# Altium integrated library Microchip dsPIC30F.IntLib: 283 symbols (part 1 of 14)
Pins are listed as number, name and electrical type; pins without a type are passive.

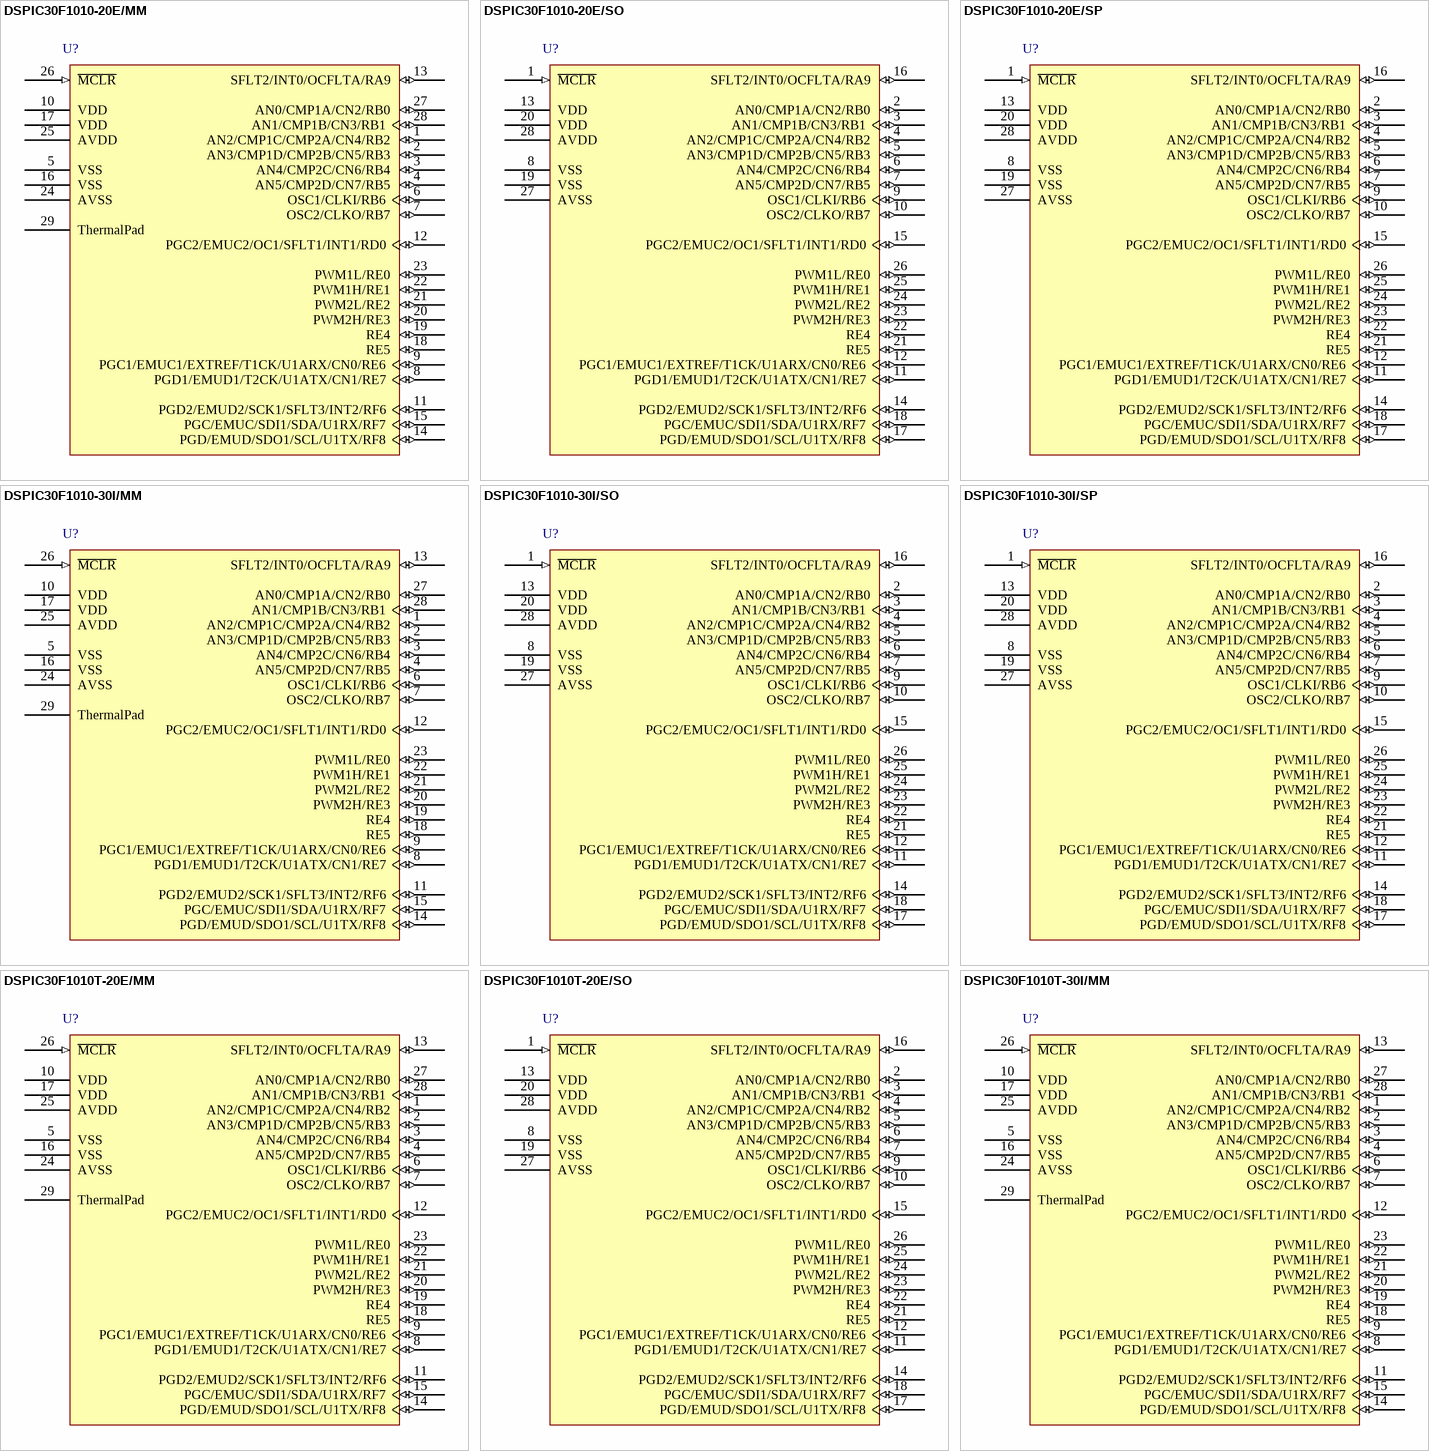
[diagram p0: symbols DSPIC30F1010-20E/MM to DSPIC30F1010T-30I/MM]

## DSPIC30F1010-20E/MM
designator U?
High-Performance 16-bit Digital Signal Controller with Switch Mode Power Supply, 6 KB Flash, 256 Byte SRAM, 28-Pin QFN, Extended High Temperature; Manufacturer: Microchip; PartNumber: DSPIC30F1010-20E/MM; DatasheetVersion: revC, Nov-2006; PackageVersion: revBB, Aug-2009; PackageReference: QFNS-MM28; PackageDescription: 28-Lead Plastic Quad Flat, No Lead Package (MM) - 6x6x0.9 mm Body [QFN-S] with 0.40 mm Contact Length; Supplier 1: Digi-Key; Supplier Part Number 1: DSPIC30F1010-20E/MM-ND; Supplier 2: Mouser; Supplier Part Number 2: 579-DSPIC30101020EMM; Mounting Technology: Surface Mount; ComponentLink1Description: Manufacturer URL; ComponentLink1URL: http://www.microchip.com/; ComponentLink2Description: Datasheet; ComponentLink2URL: http://ww1.microchip.com/downloads/en/DeviceDoc/70178C.pdf; ComponentLink3Description: Package Specification; ComponentLink3URL: http://www.microchip.com/stellent/groups/techpub_sg/documents/packagingspec/en012702.pdf
footprint QFNS-MM28_N (QFN, 28-Leads, Body 6x6mm, Pitch 0.65mm, Thermal Pad 4.7x4.7mm, IPC Medium Density)
footprint QFNS-MM28_L (QFN, 28-Leads, Body 6x6mm, Pitch 0.65mm, Thermal Pad 4.7x4.7mm, IPC High Density)
footprint QFNS-MM28_M (QFN, 28-Leads, Body 6x6mm, Pitch 0.65mm, Thermal Pad 4.7x4.7mm, IPC Low Density)
pins: 1 AN2/CMP1C/CMP2A/CN4/RB2 (io), 2 AN3/CMP1D/CMP2B/CN5/RB3 (io), 3 AN4/CMP2C/CN6/RB4 (io), 4 AN5/CMP2D/CN7/RB5 (io), 5 VSS (power), 6 OSC1/CLKI/RB6 (io), 7 OSC2/CLKO/RB7 (io), 8 PGD1/EMUD1/T2CK/U1ATX/CN1/RE7 (io), 9 PGC1/EMUC1/EXTREF/T1CK/U1ARX/CN0/RE6 (io), 10 VDD (power), 11 PGD2/EMUD2/SCK1/SFLT3/INT2/RF6 (io), 12 PGC2/EMUC2/OC1/SFLT1/INT1/RD0 (io), 13 SFLT2/INT0/OCFLTA/RA9 (io), 14 PGD/EMUD/SDO1/SCL/U1TX/RF8 (io), 15 PGC/EMUC/SDI1/SDA/U1RX/RF7 (io), 16 VSS (power), 17 VDD (power), 18 RE5 (io), 19 RE4 (io), 20 PWM2H/RE3 (io), 21 PWM2L/RE2 (io), 22 PWM1H/RE1 (io), 23 PWM1L/RE0 (io), 24 AVSS (power), 25 AVDD (power), 26 ~{MCLR} (in), 27 AN0/CMP1A/CN2/RB0 (io), 28 AN1/CMP1B/CN3/RB1 (io), 29 ThermalPad

## DSPIC30F1010-20E/SO
designator U?
High-Performance 16-bit Digital Signal Controller with Switch Mode Power Supply, 6 KB Flash, 256 Byte SRAM, 28-Pin SOIC, Extended High Temperature; Manufacturer: Microchip; PartNumber: DSPIC30F1010-20E/SO; DatasheetVersion: revC, Nov-2006; PackageVersion: revBB, Aug-2009; PackageReference: SOIC-SO28; PackageDescription: 28-Lead Plastic Small Outline (SO) - Wide 7.50mm Body [SOIC]; Supplier 1: Digi-Key; Supplier Part Number 1: DSPIC30F1010-20E/SO-ND; Supplier 2: Mouser; Supplier Part Number 2: 579-DSPIC30101020ESO; Mounting Technology: Surface Mount; Code_JEDEC: MS-013; ComponentLink1Description: Manufacturer URL; ComponentLink1URL: http://www.microchip.com/; ComponentLink2Description: Datasheet; ComponentLink2URL: http://ww1.microchip.com/downloads/en/DeviceDoc/70178C.pdf; ComponentLink3Description: Package Specification; ComponentLink3URL: http://www.microchip.com/stellent/groups/techpub_sg/documents/packagingspec/en012702.pdf
footprint SOIC-SO28_N (SOIC, 28-Leads, Body 17.9x7.5mm, Pitch 1.27mm, IPC Medium Density)
footprint SOIC-SO28_L (SOIC, 28-Leads, Body 17.9x7.5mm, Pitch 1.27mm, IPC High Density)
footprint SOIC-SO28_M (SOIC, 28-Leads, Body 17.9x7.5mm, Pitch 1.27mm, IPC Low Density)
pins: 1 ~{MCLR} (in), 2 AN0/CMP1A/CN2/RB0 (io), 3 AN1/CMP1B/CN3/RB1 (io), 4 AN2/CMP1C/CMP2A/CN4/RB2 (io), 5 AN3/CMP1D/CMP2B/CN5/RB3 (io), 6 AN4/CMP2C/CN6/RB4 (io), 7 AN5/CMP2D/CN7/RB5 (io), 8 VSS (power), 9 OSC1/CLKI/RB6 (io), 10 OSC2/CLKO/RB7 (io), 11 PGD1/EMUD1/T2CK/U1ATX/CN1/RE7 (io), 12 PGC1/EMUC1/EXTREF/T1CK/U1ARX/CN0/RE6 (io), 13 VDD (power), 14 PGD2/EMUD2/SCK1/SFLT3/INT2/RF6 (io), 15 PGC2/EMUC2/OC1/SFLT1/INT1/RD0 (io), 16 SFLT2/INT0/OCFLTA/RA9 (io), 17 PGD/EMUD/SDO1/SCL/U1TX/RF8 (io), 18 PGC/EMUC/SDI1/SDA/U1RX/RF7 (io), 19 VSS (power), 20 VDD (power), 21 RE5 (io), 22 RE4 (io), 23 PWM2H/RE3 (io), 24 PWM2L/RE2 (io), 25 PWM1H/RE1 (io), 26 PWM1L/RE0 (io), 27 AVSS (power), 28 AVDD (power)

## DSPIC30F1010-20E/SP
designator U?
High-Performance 16-bit Digital Signal Controller with Switch Mode Power Supply, 6 KB Flash, 256 Byte SRAM, 28-Pin SPDIP, Extended High Temperature; Manufacturer: Microchip; PartNumber: DSPIC30F1010-20E/SP; DatasheetVersion: revC, Nov-2006; PackageVersion: revBB, Aug-2009; PackageReference: SPDIP300-SP28; PackageDescription: 28-Lead Skinny Plastic Dual In-Line (SP) - 300 mil Body [SPDIP]; Supplier 1: Digi-Key; Supplier Part Number 1: DSPIC30F1010-20E/SP-ND; Supplier 2: Newark; Supplier Part Number 2: 88K3872; Supplier 3: Mouser; Supplier Part Number 3: 579-DSPIC30101020ESP; Mounting Technology: Through Hole; ComponentLink1Description: Manufacturer URL; ComponentLink1URL: http://www.microchip.com/; ComponentLink2Description: Datasheet; ComponentLink2URL: http://ww1.microchip.com/downloads/en/DeviceDoc/70178C.pdf; ComponentLink3Description: Package Specification; ComponentLink3URL: http://www.microchip.com/stellent/groups/techpub_sg/documents/packagingspec/en012702.pdf
footprint SPDIP300-SP28 (DIP, 28-Leads, Row Spacing 7.62mm, Pitch 2.54mm, Body 34.9x6.8mm)
pins: 1 ~{MCLR} (in), 2 AN0/CMP1A/CN2/RB0 (io), 3 AN1/CMP1B/CN3/RB1 (io), 4 AN2/CMP1C/CMP2A/CN4/RB2 (io), 5 AN3/CMP1D/CMP2B/CN5/RB3 (io), 6 AN4/CMP2C/CN6/RB4 (io), 7 AN5/CMP2D/CN7/RB5 (io), 8 VSS (power), 9 OSC1/CLKI/RB6 (io), 10 OSC2/CLKO/RB7 (io), 11 PGD1/EMUD1/T2CK/U1ATX/CN1/RE7 (io), 12 PGC1/EMUC1/EXTREF/T1CK/U1ARX/CN0/RE6 (io), 13 VDD (power), 14 PGD2/EMUD2/SCK1/SFLT3/INT2/RF6 (io), 15 PGC2/EMUC2/OC1/SFLT1/INT1/RD0 (io), 16 SFLT2/INT0/OCFLTA/RA9 (io), 17 PGD/EMUD/SDO1/SCL/U1TX/RF8 (io), 18 PGC/EMUC/SDI1/SDA/U1RX/RF7 (io), 19 VSS (power), 20 VDD (power), 21 RE5 (io), 22 RE4 (io), 23 PWM2H/RE3 (io), 24 PWM2L/RE2 (io), 25 PWM1H/RE1 (io), 26 PWM1L/RE0 (io), 27 AVSS (power), 28 AVDD (power)

## DSPIC30F1010-30I/MM
designator U?
High-Performance 16-bit Digital Signal Controller with Switch Mode Power Supply, 6 KB Flash, 256 Byte SRAM, 28-Pin QFN, Industrial Temperature; Manufacturer: Microchip; PartNumber: DSPIC30F1010-30I/MM; DatasheetVersion: revC, Nov-2006; PackageVersion: revBB, Aug-2009; PackageReference: QFNS-MM28; PackageDescription: 28-Lead Plastic Quad Flat, No Lead Package (MM) - 6x6x0.9 mm Body [QFN-S] with 0.40 mm Contact Length; Supplier 1: Digi-Key; Supplier Part Number 1: DSPIC30F1010-30I/MM-ND; Supplier 2: Mouser; Supplier Part Number 2: 579-DSPIC30101030IMM; Mounting Technology: Surface Mount; ComponentLink1Description: Manufacturer URL; ComponentLink1URL: http://www.microchip.com/; ComponentLink2Description: Datasheet; ComponentLink2URL: http://ww1.microchip.com/downloads/en/DeviceDoc/70178C.pdf; ComponentLink3Description: Package Specification; ComponentLink3URL: http://www.microchip.com/stellent/groups/techpub_sg/documents/packagingspec/en012702.pdf
footprint QFNS-MM28_N (QFN, 28-Leads, Body 6x6mm, Pitch 0.65mm, Thermal Pad 4.7x4.7mm, IPC Medium Density)
footprint QFNS-MM28_L (QFN, 28-Leads, Body 6x6mm, Pitch 0.65mm, Thermal Pad 4.7x4.7mm, IPC High Density)
footprint QFNS-MM28_M (QFN, 28-Leads, Body 6x6mm, Pitch 0.65mm, Thermal Pad 4.7x4.7mm, IPC Low Density)
pins: 1 AN2/CMP1C/CMP2A/CN4/RB2 (io), 2 AN3/CMP1D/CMP2B/CN5/RB3 (io), 3 AN4/CMP2C/CN6/RB4 (io), 4 AN5/CMP2D/CN7/RB5 (io), 5 VSS (power), 6 OSC1/CLKI/RB6 (io), 7 OSC2/CLKO/RB7 (io), 8 PGD1/EMUD1/T2CK/U1ATX/CN1/RE7 (io), 9 PGC1/EMUC1/EXTREF/T1CK/U1ARX/CN0/RE6 (io), 10 VDD (power), 11 PGD2/EMUD2/SCK1/SFLT3/INT2/RF6 (io), 12 PGC2/EMUC2/OC1/SFLT1/INT1/RD0 (io), 13 SFLT2/INT0/OCFLTA/RA9 (io), 14 PGD/EMUD/SDO1/SCL/U1TX/RF8 (io), 15 PGC/EMUC/SDI1/SDA/U1RX/RF7 (io), 16 VSS (power), 17 VDD (power), 18 RE5 (io), 19 RE4 (io), 20 PWM2H/RE3 (io), 21 PWM2L/RE2 (io), 22 PWM1H/RE1 (io), 23 PWM1L/RE0 (io), 24 AVSS (power), 25 AVDD (power), 26 ~{MCLR} (in), 27 AN0/CMP1A/CN2/RB0 (io), 28 AN1/CMP1B/CN3/RB1 (io), 29 ThermalPad

## DSPIC30F1010-30I/SO
designator U?
High-Performance 16-bit Digital Signal Controller with Switch Mode Power Supply, 6 KB Flash, 256 Byte SRAM, 28-Pin SOIC, Industrial Temperature; Manufacturer: Microchip; PartNumber: DSPIC30F1010-30I/SO; DatasheetVersion: revC, Nov-2006; PackageVersion: revBB, Aug-2009; PackageReference: SOIC-SO28; PackageDescription: 28-Lead Plastic Small Outline (SO) - Wide 7.50mm Body [SOIC]; Supplier 1: Digi-Key; Supplier Part Number 1: DSPIC30F1010-30I/SO-ND; Supplier 2: Farnell; Supplier Part Number 2: 1332021; Supplier 3: Mouser; Supplier Part Number 3: 579-DSPIC30101030ISO; Mounting Technology: Surface Mount; Code_JEDEC: MS-013; ComponentLink1Description: Manufacturer URL; ComponentLink1URL: http://www.microchip.com/; ComponentLink2Description: Datasheet; ComponentLink2URL: http://ww1.microchip.com/downloads/en/DeviceDoc/70178C.pdf; ComponentLink3Description: Package Specification; ComponentLink3URL: http://www.microchip.com/stellent/groups/techpub_sg/documents/packagingspec/en012702.pdf
footprint SOIC-SO28_N (SOIC, 28-Leads, Body 17.9x7.5mm, Pitch 1.27mm, IPC Medium Density)
footprint SOIC-SO28_L (SOIC, 28-Leads, Body 17.9x7.5mm, Pitch 1.27mm, IPC High Density)
footprint SOIC-SO28_M (SOIC, 28-Leads, Body 17.9x7.5mm, Pitch 1.27mm, IPC Low Density)
pins: 1 ~{MCLR} (in), 2 AN0/CMP1A/CN2/RB0 (io), 3 AN1/CMP1B/CN3/RB1 (io), 4 AN2/CMP1C/CMP2A/CN4/RB2 (io), 5 AN3/CMP1D/CMP2B/CN5/RB3 (io), 6 AN4/CMP2C/CN6/RB4 (io), 7 AN5/CMP2D/CN7/RB5 (io), 8 VSS (power), 9 OSC1/CLKI/RB6 (io), 10 OSC2/CLKO/RB7 (io), 11 PGD1/EMUD1/T2CK/U1ATX/CN1/RE7 (io), 12 PGC1/EMUC1/EXTREF/T1CK/U1ARX/CN0/RE6 (io), 13 VDD (power), 14 PGD2/EMUD2/SCK1/SFLT3/INT2/RF6 (io), 15 PGC2/EMUC2/OC1/SFLT1/INT1/RD0 (io), 16 SFLT2/INT0/OCFLTA/RA9 (io), 17 PGD/EMUD/SDO1/SCL/U1TX/RF8 (io), 18 PGC/EMUC/SDI1/SDA/U1RX/RF7 (io), 19 VSS (power), 20 VDD (power), 21 RE5 (io), 22 RE4 (io), 23 PWM2H/RE3 (io), 24 PWM2L/RE2 (io), 25 PWM1H/RE1 (io), 26 PWM1L/RE0 (io), 27 AVSS (power), 28 AVDD (power)

## DSPIC30F1010-30I/SP
designator U?
High-Performance 16-bit Digital Signal Controller with Switch Mode Power Supply, 6 KB Flash, 256 Byte SRAM, 28-Pin SPDIP, Industrial Temperature; Manufacturer: Microchip; PartNumber: DSPIC30F1010-30I/SP; DatasheetVersion: revC, Nov-2006; PackageVersion: revBB, Aug-2009; PackageReference: SPDIP300-SP28; PackageDescription: 28-Lead Skinny Plastic Dual In-Line (SP) - 300 mil Body [SPDIP]; Supplier 1: Digi-Key; Supplier Part Number 1: DSPIC30F1010-30I/SP-ND; Supplier 2: Farnell; Supplier Part Number 2: 1297280; Supplier 3: Newark; Supplier Part Number 3: 88K3875; Supplier 4: Mouser; Supplier Part Number 4: 579-DSPIC30F101030I; Mounting Technology: Through Hole; ComponentLink1Description: Manufacturer URL; ComponentLink1URL: http://www.microchip.com/; ComponentLink2Description: Datasheet; ComponentLink2URL: http://ww1.microchip.com/downloads/en/DeviceDoc/70178C.pdf; ComponentLink3Description: Package Specification; ComponentLink3URL: http://www.microchip.com/stellent/groups/techpub_sg/documents/packagingspec/en012702.pdf
footprint SPDIP300-SP28 (DIP, 28-Leads, Row Spacing 7.62mm, Pitch 2.54mm, Body 34.9x6.8mm)
pins: 1 ~{MCLR} (in), 2 AN0/CMP1A/CN2/RB0 (io), 3 AN1/CMP1B/CN3/RB1 (io), 4 AN2/CMP1C/CMP2A/CN4/RB2 (io), 5 AN3/CMP1D/CMP2B/CN5/RB3 (io), 6 AN4/CMP2C/CN6/RB4 (io), 7 AN5/CMP2D/CN7/RB5 (io), 8 VSS (power), 9 OSC1/CLKI/RB6 (io), 10 OSC2/CLKO/RB7 (io), 11 PGD1/EMUD1/T2CK/U1ATX/CN1/RE7 (io), 12 PGC1/EMUC1/EXTREF/T1CK/U1ARX/CN0/RE6 (io), 13 VDD (power), 14 PGD2/EMUD2/SCK1/SFLT3/INT2/RF6 (io), 15 PGC2/EMUC2/OC1/SFLT1/INT1/RD0 (io), 16 SFLT2/INT0/OCFLTA/RA9 (io), 17 PGD/EMUD/SDO1/SCL/U1TX/RF8 (io), 18 PGC/EMUC/SDI1/SDA/U1RX/RF7 (io), 19 VSS (power), 20 VDD (power), 21 RE5 (io), 22 RE4 (io), 23 PWM2H/RE3 (io), 24 PWM2L/RE2 (io), 25 PWM1H/RE1 (io), 26 PWM1L/RE0 (io), 27 AVSS (power), 28 AVDD (power)

## DSPIC30F1010T-20E/MM
designator U?
High-Performance 16-bit Digital Signal Controller with Switch Mode Power Supply, 6 KB Flash, 256 Byte SRAM, 28-Pin QFN, Extended High Temperature, Tape and Reel; Manufacturer: Microchip; PartNumber: DSPIC30F1010T-20E/MM; DatasheetVersion: revC, Nov-2006; PackageVersion: revBB, Aug-2009; PackageReference: QFNS-MM28; PackageDescription: 28-Lead Plastic Quad Flat, No Lead Package (MM) - 6x6x0.9 mm Body [QFN-S] with 0.40 mm Contact Length; Mounting Technology: Surface Mount; ComponentLink1Description: Manufacturer URL; ComponentLink1URL: http://www.microchip.com/; ComponentLink2Description: Datasheet; ComponentLink2URL: http://ww1.microchip.com/downloads/en/DeviceDoc/70178C.pdf; ComponentLink3Description: Package Specification; ComponentLink3URL: http://www.microchip.com/stellent/groups/techpub_sg/documents/packagingspec/en012702.pdf
footprint QFNS-MM28_N (QFN, 28-Leads, Body 6x6mm, Pitch 0.65mm, Thermal Pad 4.7x4.7mm, IPC Medium Density)
footprint QFNS-MM28_L (QFN, 28-Leads, Body 6x6mm, Pitch 0.65mm, Thermal Pad 4.7x4.7mm, IPC High Density)
footprint QFNS-MM28_M (QFN, 28-Leads, Body 6x6mm, Pitch 0.65mm, Thermal Pad 4.7x4.7mm, IPC Low Density)
pins: 1 AN2/CMP1C/CMP2A/CN4/RB2 (io), 2 AN3/CMP1D/CMP2B/CN5/RB3 (io), 3 AN4/CMP2C/CN6/RB4 (io), 4 AN5/CMP2D/CN7/RB5 (io), 5 VSS (power), 6 OSC1/CLKI/RB6 (io), 7 OSC2/CLKO/RB7 (io), 8 PGD1/EMUD1/T2CK/U1ATX/CN1/RE7 (io), 9 PGC1/EMUC1/EXTREF/T1CK/U1ARX/CN0/RE6 (io), 10 VDD (power), 11 PGD2/EMUD2/SCK1/SFLT3/INT2/RF6 (io), 12 PGC2/EMUC2/OC1/SFLT1/INT1/RD0 (io), 13 SFLT2/INT0/OCFLTA/RA9 (io), 14 PGD/EMUD/SDO1/SCL/U1TX/RF8 (io), 15 PGC/EMUC/SDI1/SDA/U1RX/RF7 (io), 16 VSS (power), 17 VDD (power), 18 RE5 (io), 19 RE4 (io), 20 PWM2H/RE3 (io), 21 PWM2L/RE2 (io), 22 PWM1H/RE1 (io), 23 PWM1L/RE0 (io), 24 AVSS (power), 25 AVDD (power), 26 ~{MCLR} (in), 27 AN0/CMP1A/CN2/RB0 (io), 28 AN1/CMP1B/CN3/RB1 (io), 29 ThermalPad

## DSPIC30F1010T-20E/SO
designator U?
High-Performance 16-bit Digital Signal Controller with Switch Mode Power Supply, 6 KB Flash, 256 Byte SRAM, 28-Pin SOIC, Extended High Temperature, Tape and Reel; Manufacturer: Microchip; PartNumber: DSPIC30F1010T-20E/SO; DatasheetVersion: revC, Nov-2006; PackageVersion: revBB, Aug-2009; PackageReference: SOIC-SO28; PackageDescription: 28-Lead Plastic Small Outline (SO) - Wide 7.50mm Body [SOIC]; Mounting Technology: Surface Mount; Code_JEDEC: MS-013; ComponentLink1Description: Manufacturer URL; ComponentLink1URL: http://www.microchip.com/; ComponentLink2Description: Datasheet; ComponentLink2URL: http://ww1.microchip.com/downloads/en/DeviceDoc/70178C.pdf; ComponentLink3Description: Package Specification; ComponentLink3URL: http://www.microchip.com/stellent/groups/techpub_sg/documents/packagingspec/en012702.pdf
footprint SOIC-SO28_N (SOIC, 28-Leads, Body 17.9x7.5mm, Pitch 1.27mm, IPC Medium Density)
footprint SOIC-SO28_L (SOIC, 28-Leads, Body 17.9x7.5mm, Pitch 1.27mm, IPC High Density)
footprint SOIC-SO28_M (SOIC, 28-Leads, Body 17.9x7.5mm, Pitch 1.27mm, IPC Low Density)
pins: 1 ~{MCLR} (in), 2 AN0/CMP1A/CN2/RB0 (io), 3 AN1/CMP1B/CN3/RB1 (io), 4 AN2/CMP1C/CMP2A/CN4/RB2 (io), 5 AN3/CMP1D/CMP2B/CN5/RB3 (io), 6 AN4/CMP2C/CN6/RB4 (io), 7 AN5/CMP2D/CN7/RB5 (io), 8 VSS (power), 9 OSC1/CLKI/RB6 (io), 10 OSC2/CLKO/RB7 (io), 11 PGD1/EMUD1/T2CK/U1ATX/CN1/RE7 (io), 12 PGC1/EMUC1/EXTREF/T1CK/U1ARX/CN0/RE6 (io), 13 VDD (power), 14 PGD2/EMUD2/SCK1/SFLT3/INT2/RF6 (io), 15 PGC2/EMUC2/OC1/SFLT1/INT1/RD0 (io), 16 SFLT2/INT0/OCFLTA/RA9 (io), 17 PGD/EMUD/SDO1/SCL/U1TX/RF8 (io), 18 PGC/EMUC/SDI1/SDA/U1RX/RF7 (io), 19 VSS (power), 20 VDD (power), 21 RE5 (io), 22 RE4 (io), 23 PWM2H/RE3 (io), 24 PWM2L/RE2 (io), 25 PWM1H/RE1 (io), 26 PWM1L/RE0 (io), 27 AVSS (power), 28 AVDD (power)

## DSPIC30F1010T-30I/MM
designator U?
High-Performance 16-bit Digital Signal Controller with Switch Mode Power Supply, 6 KB Flash, 256 Byte SRAM, 28-Pin QFN, Industrial Temperature, Tape and Reel; Manufacturer: Microchip; PartNumber: DSPIC30F1010T-30I/MM; DatasheetVersion: revC, Nov-2006; PackageVersion: revBB, Aug-2009; PackageReference: QFNS-MM28; PackageDescription: 28-Lead Plastic Quad Flat, No Lead Package (MM) - 6x6x0.9 mm Body [QFN-S] with 0.40 mm Contact Length; Supplier 1: Digi-Key; Supplier Part Number 1: DSPIC30F1010T-30I/MMTR-ND; Supplier 2: Mouser; Supplier Part Number 2: 579-DSPIC301010T30IM; Mounting Technology: Surface Mount; ComponentLink1Description: Manufacturer URL; ComponentLink1URL: http://www.microchip.com/; ComponentLink2Description: Datasheet; ComponentLink2URL: http://ww1.microchip.com/downloads/en/DeviceDoc/70178C.pdf; ComponentLink3Description: Package Specification; ComponentLink3URL: http://www.microchip.com/stellent/groups/techpub_sg/documents/packagingspec/en012702.pdf
footprint QFNS-MM28_N (QFN, 28-Leads, Body 6x6mm, Pitch 0.65mm, Thermal Pad 4.7x4.7mm, IPC Medium Density)
footprint QFNS-MM28_L (QFN, 28-Leads, Body 6x6mm, Pitch 0.65mm, Thermal Pad 4.7x4.7mm, IPC High Density)
footprint QFNS-MM28_M (QFN, 28-Leads, Body 6x6mm, Pitch 0.65mm, Thermal Pad 4.7x4.7mm, IPC Low Density)
pins: 1 AN2/CMP1C/CMP2A/CN4/RB2 (io), 2 AN3/CMP1D/CMP2B/CN5/RB3 (io), 3 AN4/CMP2C/CN6/RB4 (io), 4 AN5/CMP2D/CN7/RB5 (io), 5 VSS (power), 6 OSC1/CLKI/RB6 (io), 7 OSC2/CLKO/RB7 (io), 8 PGD1/EMUD1/T2CK/U1ATX/CN1/RE7 (io), 9 PGC1/EMUC1/EXTREF/T1CK/U1ARX/CN0/RE6 (io), 10 VDD (power), 11 PGD2/EMUD2/SCK1/SFLT3/INT2/RF6 (io), 12 PGC2/EMUC2/OC1/SFLT1/INT1/RD0 (io), 13 SFLT2/INT0/OCFLTA/RA9 (io), 14 PGD/EMUD/SDO1/SCL/U1TX/RF8 (io), 15 PGC/EMUC/SDI1/SDA/U1RX/RF7 (io), 16 VSS (power), 17 VDD (power), 18 RE5 (io), 19 RE4 (io), 20 PWM2H/RE3 (io), 21 PWM2L/RE2 (io), 22 PWM1H/RE1 (io), 23 PWM1L/RE0 (io), 24 AVSS (power), 25 AVDD (power), 26 ~{MCLR} (in), 27 AN0/CMP1A/CN2/RB0 (io), 28 AN1/CMP1B/CN3/RB1 (io), 29 ThermalPad

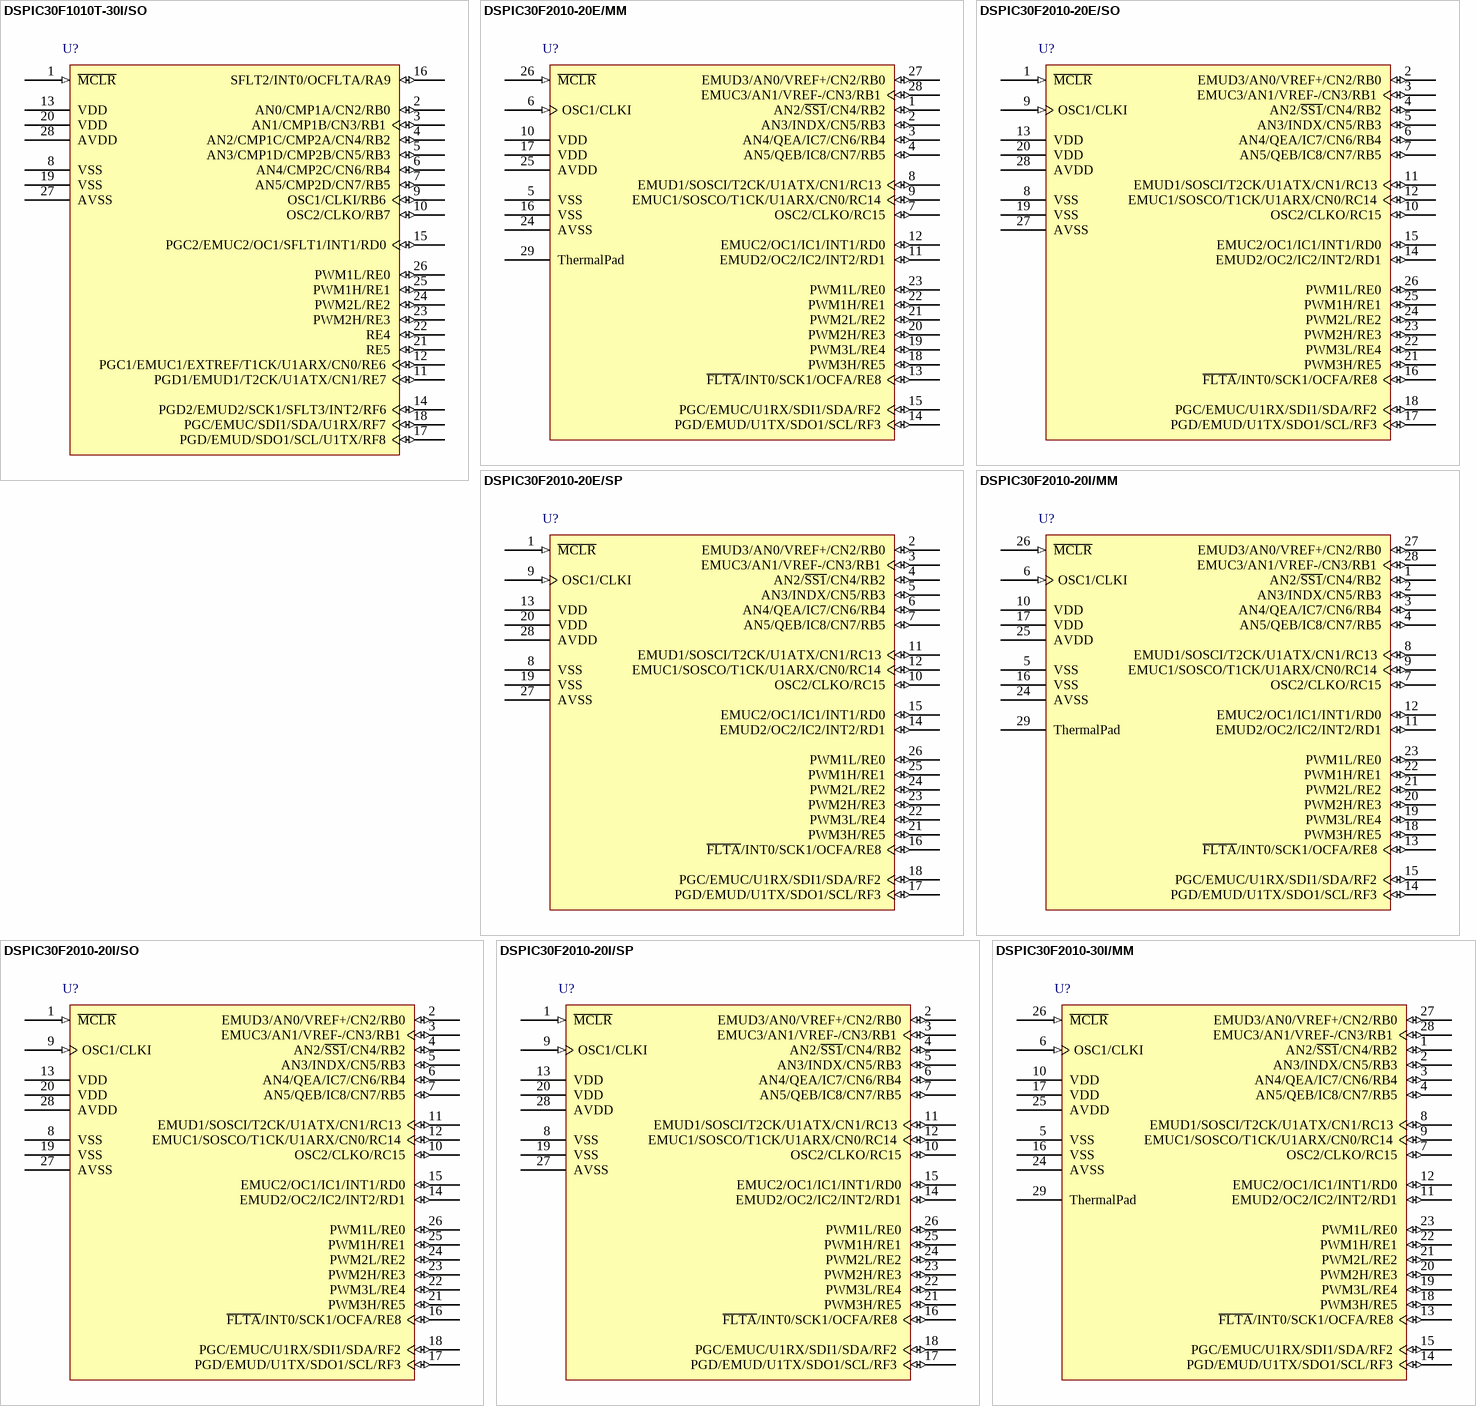
[diagram p1: symbols DSPIC30F1010T-30I/SO to DSPIC30F2010-30I/MM]

## DSPIC30F1010T-30I/SO
designator U?
High-Performance 16-bit Digital Signal Controller with Switch Mode Power Supply, 6 KB Flash, 256 Byte SRAM, 28-Pin SOIC, Industrial Temperature, Tape and Reel; Manufacturer: Microchip; PartNumber: DSPIC30F1010T-30I/SO; DatasheetVersion: revC, Nov-2006; PackageVersion: revBB, Aug-2009; PackageReference: SOIC-SO28; PackageDescription: 28-Lead Plastic Small Outline (SO) - Wide 7.50mm Body [SOIC]; Supplier 1: Digi-Key; Supplier Part Number 1: DSPIC30F1010T-30I/SOTR-ND; Supplier 2: Newark; Supplier Part Number 2: 88K3877; Supplier 3: Mouser; Supplier Part Number 3: 579-DSPIC30F1010T30I; Mounting Technology: Surface Mount; Code_JEDEC: MS-013; ComponentLink1Description: Manufacturer URL; ComponentLink1URL: http://www.microchip.com/; ComponentLink2Description: Datasheet; ComponentLink2URL: http://ww1.microchip.com/downloads/en/DeviceDoc/70178C.pdf; ComponentLink3Description: Package Specification; ComponentLink3URL: http://www.microchip.com/stellent/groups/techpub_sg/documents/packagingspec/en012702.pdf
footprint SOIC-SO28_N (SOIC, 28-Leads, Body 17.9x7.5mm, Pitch 1.27mm, IPC Medium Density)
footprint SOIC-SO28_L (SOIC, 28-Leads, Body 17.9x7.5mm, Pitch 1.27mm, IPC High Density)
footprint SOIC-SO28_M (SOIC, 28-Leads, Body 17.9x7.5mm, Pitch 1.27mm, IPC Low Density)
pins: 1 ~{MCLR} (in), 2 AN0/CMP1A/CN2/RB0 (io), 3 AN1/CMP1B/CN3/RB1 (io), 4 AN2/CMP1C/CMP2A/CN4/RB2 (io), 5 AN3/CMP1D/CMP2B/CN5/RB3 (io), 6 AN4/CMP2C/CN6/RB4 (io), 7 AN5/CMP2D/CN7/RB5 (io), 8 VSS (power), 9 OSC1/CLKI/RB6 (io), 10 OSC2/CLKO/RB7 (io), 11 PGD1/EMUD1/T2CK/U1ATX/CN1/RE7 (io), 12 PGC1/EMUC1/EXTREF/T1CK/U1ARX/CN0/RE6 (io), 13 VDD (power), 14 PGD2/EMUD2/SCK1/SFLT3/INT2/RF6 (io), 15 PGC2/EMUC2/OC1/SFLT1/INT1/RD0 (io), 16 SFLT2/INT0/OCFLTA/RA9 (io), 17 PGD/EMUD/SDO1/SCL/U1TX/RF8 (io), 18 PGC/EMUC/SDI1/SDA/U1RX/RF7 (io), 19 VSS (power), 20 VDD (power), 21 RE5 (io), 22 RE4 (io), 23 PWM2H/RE3 (io), 24 PWM2L/RE2 (io), 25 PWM1H/RE1 (io), 26 PWM1L/RE0 (io), 27 AVSS (power), 28 AVDD (power)

## DSPIC30F2010-20E/MM
designator U?
High-Performance 16-bit Digital Signal Controller, 12 KB Flash, 512 Byte SRAM, 1 KB EEPROM, 28-Pin QFN, Extended High Temperature; Manufacturer: Microchip; PartNumber: DSPIC30F2010-20E/MM; DatasheetVersion: revH, May-2008; PackageVersion: revBB, Aug-2009; PackageReference: QFNS-MM28; PackageDescription: 28-Lead Plastic Quad Flat, No Lead Package (MM) - 6x6x0.9 mm Body [QFN-S] with 0.40 mm Contact Length; Supplier 1: Digi-Key; Supplier Part Number 1: DSPIC30F2010-20E/MM-ND; Supplier 2: Mouser; Supplier Part Number 2: 579-DSPIC30F21020EMM; Mounting Technology: Surface Mount; ComponentLink1Description: Manufacturer URL; ComponentLink1URL: http://www.microchip.com/; ComponentLink2Description: Datasheet; ComponentLink2URL: http://ww1.microchip.com/downloads/en/DeviceDoc/70118H.pdf; ComponentLink3Description: Package Specification; ComponentLink3URL: http://www.microchip.com/stellent/groups/techpub_sg/documents/packagingspec/en012702.pdf
footprint QFNS-MM28_N (QFN, 28-Leads, Body 6x6mm, Pitch 0.65mm, Thermal Pad 4.7x4.7mm, IPC Medium Density)
footprint QFNS-MM28_L (QFN, 28-Leads, Body 6x6mm, Pitch 0.65mm, Thermal Pad 4.7x4.7mm, IPC High Density)
footprint QFNS-MM28_M (QFN, 28-Leads, Body 6x6mm, Pitch 0.65mm, Thermal Pad 4.7x4.7mm, IPC Low Density)
pins: 1 AN2/~{SS1}/CN4/RB2 (io), 2 AN3/INDX/CN5/RB3 (io), 3 AN4/QEA/IC7/CN6/RB4 (io), 4 AN5/QEB/IC8/CN7/RB5 (io), 5 VSS (power), 6 OSC1/CLKI (in), 7 OSC2/CLKO/RC15 (io), 8 EMUD1/SOSCI/T2CK/U1ATX/CN1/RC13 (io), 9 EMUC1/SOSCO/T1CK/U1ARX/CN0/RC14 (io), 10 VDD (power), 11 EMUD2/OC2/IC2/INT2/RD1 (io), 12 EMUC2/OC1/IC1/INT1/RD0 (io), 13 ~{FLTA}/INT0/SCK1/OCFA/RE8 (io), 14 PGD/EMUD/U1TX/SDO1/SCL/RF3 (io), 15 PGC/EMUC/U1RX/SDI1/SDA/RF2 (io), 16 VSS (power), 17 VDD (power), 18 PWM3H/RE5 (io), 19 PWM3L/RE4 (io), 20 PWM2H/RE3 (io), 21 PWM2L/RE2 (io), 22 PWM1H/RE1 (io), 23 PWM1L/RE0 (io), 24 AVSS (power), 25 AVDD (power), 26 ~{MCLR} (in), 27 EMUD3/AN0/VREF+/CN2/RB0 (io), 28 EMUC3/AN1/VREF-/CN3/RB1 (io), 29 ThermalPad

## DSPIC30F2010-20E/SO
designator U?
High-Performance 16-bit Digital Signal Controller, 12 KB Flash, 512 Byte SRAM, 1 KB EEPROM, 28-Pin SOIC, Extended High Temperature; Manufacturer: Microchip; PartNumber: DSPIC30F2010-20E/SO; DatasheetVersion: revH, May-2008; PackageVersion: revBB, Aug-2009; PackageReference: SOIC-SO28; PackageDescription: 28-Lead Plastic Small Outline (SO) - Wide 7.50mm Body [SOIC]; Supplier 1: Digi-Key; Supplier Part Number 1: DSPIC30F2010-20E/SO-ND; Supplier 2: Mouser; Supplier Part Number 2: 579-DSPIC30F21020ESO; Mounting Technology: Surface Mount; Code_JEDEC: MS-013; ComponentLink1Description: Manufacturer URL; ComponentLink1URL: http://www.microchip.com/; ComponentLink2Description: Datasheet; ComponentLink2URL: http://ww1.microchip.com/downloads/en/DeviceDoc/70118H.pdf; ComponentLink3Description: Package Specification; ComponentLink3URL: http://www.microchip.com/stellent/groups/techpub_sg/documents/packagingspec/en012702.pdf
footprint SOIC-SO28_N (SOIC, 28-Leads, Body 17.9x7.5mm, Pitch 1.27mm, IPC Medium Density)
footprint SOIC-SO28_L (SOIC, 28-Leads, Body 17.9x7.5mm, Pitch 1.27mm, IPC High Density)
footprint SOIC-SO28_M (SOIC, 28-Leads, Body 17.9x7.5mm, Pitch 1.27mm, IPC Low Density)
pins: 1 ~{MCLR} (in), 2 EMUD3/AN0/VREF+/CN2/RB0 (io), 3 EMUC3/AN1/VREF-/CN3/RB1 (io), 4 AN2/~{SS1}/CN4/RB2 (io), 5 AN3/INDX/CN5/RB3 (io), 6 AN4/QEA/IC7/CN6/RB4 (io), 7 AN5/QEB/IC8/CN7/RB5 (io), 8 VSS (power), 9 OSC1/CLKI (in), 10 OSC2/CLKO/RC15 (io), 11 EMUD1/SOSCI/T2CK/U1ATX/CN1/RC13 (io), 12 EMUC1/SOSCO/T1CK/U1ARX/CN0/RC14 (io), 13 VDD (power), 14 EMUD2/OC2/IC2/INT2/RD1 (io), 15 EMUC2/OC1/IC1/INT1/RD0 (io), 16 ~{FLTA}/INT0/SCK1/OCFA/RE8 (io), 17 PGD/EMUD/U1TX/SDO1/SCL/RF3 (io), 18 PGC/EMUC/U1RX/SDI1/SDA/RF2 (io), 19 VSS (power), 20 VDD (power), 21 PWM3H/RE5 (io), 22 PWM3L/RE4 (io), 23 PWM2H/RE3 (io), 24 PWM2L/RE2 (io), 25 PWM1H/RE1 (io), 26 PWM1L/RE0 (io), 27 AVSS (power), 28 AVDD (power)

## DSPIC30F2010-20E/SP
designator U?
High-Performance 16-bit Digital Signal Controller, 12 KB Flash, 512 Byte SRAM, 1 KB EEPROM, 28-Pin SPDIP, Extended High Temperature; Manufacturer: Microchip; PartNumber: DSPIC30F2010-20E/SP; DatasheetVersion: revH, May-2008; PackageVersion: revBB, Aug-2009; PackageReference: SPDIP300-SP28; PackageDescription: 28-Lead Skinny Plastic Dual In-Line (SP) - 300 mil Body [SPDIP]; Supplier 1: Digi-Key; Supplier Part Number 1: DSPIC30F2010-20E/SP-ND; Supplier 2: Newark; Supplier Part Number 2: 54M4475; Supplier 3: Mouser; Supplier Part Number 3: 579-DSPIC30F21020ESP; Mounting Technology: Through Hole; ComponentLink1Description: Manufacturer URL; ComponentLink1URL: http://www.microchip.com/; ComponentLink2Description: Datasheet; ComponentLink2URL: http://ww1.microchip.com/downloads/en/DeviceDoc/70118H.pdf; ComponentLink3Description: Package Specification; ComponentLink3URL: http://www.microchip.com/stellent/groups/techpub_sg/documents/packagingspec/en012702.pdf
footprint SPDIP300-SP28 (DIP, 28-Leads, Row Spacing 7.62mm, Pitch 2.54mm, Body 34.9x6.8mm)
pins: 1 ~{MCLR} (in), 2 EMUD3/AN0/VREF+/CN2/RB0 (io), 3 EMUC3/AN1/VREF-/CN3/RB1 (io), 4 AN2/~{SS1}/CN4/RB2 (io), 5 AN3/INDX/CN5/RB3 (io), 6 AN4/QEA/IC7/CN6/RB4 (io), 7 AN5/QEB/IC8/CN7/RB5 (io), 8 VSS (power), 9 OSC1/CLKI (in), 10 OSC2/CLKO/RC15 (io), 11 EMUD1/SOSCI/T2CK/U1ATX/CN1/RC13 (io), 12 EMUC1/SOSCO/T1CK/U1ARX/CN0/RC14 (io), 13 VDD (power), 14 EMUD2/OC2/IC2/INT2/RD1 (io), 15 EMUC2/OC1/IC1/INT1/RD0 (io), 16 ~{FLTA}/INT0/SCK1/OCFA/RE8 (io), 17 PGD/EMUD/U1TX/SDO1/SCL/RF3 (io), 18 PGC/EMUC/U1RX/SDI1/SDA/RF2 (io), 19 VSS (power), 20 VDD (power), 21 PWM3H/RE5 (io), 22 PWM3L/RE4 (io), 23 PWM2H/RE3 (io), 24 PWM2L/RE2 (io), 25 PWM1H/RE1 (io), 26 PWM1L/RE0 (io), 27 AVSS (power), 28 AVDD (power)

## DSPIC30F2010-20I/MM
designator U?
High-Performance 16-bit Digital Signal Controller, 12 KB Flash, 512 Byte SRAM, 1 KB EEPROM, 28-Pin QFN, Industrial Temperature; Manufacturer: Microchip; PartNumber: DSPIC30F2010-20I/MM; DatasheetVersion: revH, May-2008; PackageVersion: revBB, Aug-2009; PackageReference: QFNS-MM28; PackageDescription: 28-Lead Plastic Quad Flat, No Lead Package (MM) - 6x6x0.9 mm Body [QFN-S] with 0.40 mm Contact Length; Supplier 1: Digi-Key; Supplier Part Number 1: DSPIC30F2010-20I/MM-ND; Supplier 2: Newark; Supplier Part Number 2: 56J7024; Supplier 3: Mouser; Supplier Part Number 3: 579-DSPIC30F21020IMM; Mounting Technology: Surface Mount; ComponentLink1Description: Manufacturer URL; ComponentLink1URL: http://www.microchip.com/; ComponentLink2Description: Datasheet; ComponentLink2URL: http://ww1.microchip.com/downloads/en/DeviceDoc/70118H.pdf; ComponentLink3Description: Package Specification; ComponentLink3URL: http://www.microchip.com/stellent/groups/techpub_sg/documents/packagingspec/en012702.pdf
footprint QFNS-MM28_N (QFN, 28-Leads, Body 6x6mm, Pitch 0.65mm, Thermal Pad 4.7x4.7mm, IPC Medium Density)
footprint QFNS-MM28_L (QFN, 28-Leads, Body 6x6mm, Pitch 0.65mm, Thermal Pad 4.7x4.7mm, IPC High Density)
footprint QFNS-MM28_M (QFN, 28-Leads, Body 6x6mm, Pitch 0.65mm, Thermal Pad 4.7x4.7mm, IPC Low Density)
pins: 1 AN2/~{SS1}/CN4/RB2 (io), 2 AN3/INDX/CN5/RB3 (io), 3 AN4/QEA/IC7/CN6/RB4 (io), 4 AN5/QEB/IC8/CN7/RB5 (io), 5 VSS (power), 6 OSC1/CLKI (in), 7 OSC2/CLKO/RC15 (io), 8 EMUD1/SOSCI/T2CK/U1ATX/CN1/RC13 (io), 9 EMUC1/SOSCO/T1CK/U1ARX/CN0/RC14 (io), 10 VDD (power), 11 EMUD2/OC2/IC2/INT2/RD1 (io), 12 EMUC2/OC1/IC1/INT1/RD0 (io), 13 ~{FLTA}/INT0/SCK1/OCFA/RE8 (io), 14 PGD/EMUD/U1TX/SDO1/SCL/RF3 (io), 15 PGC/EMUC/U1RX/SDI1/SDA/RF2 (io), 16 VSS (power), 17 VDD (power), 18 PWM3H/RE5 (io), 19 PWM3L/RE4 (io), 20 PWM2H/RE3 (io), 21 PWM2L/RE2 (io), 22 PWM1H/RE1 (io), 23 PWM1L/RE0 (io), 24 AVSS (power), 25 AVDD (power), 26 ~{MCLR} (in), 27 EMUD3/AN0/VREF+/CN2/RB0 (io), 28 EMUC3/AN1/VREF-/CN3/RB1 (io), 29 ThermalPad

## DSPIC30F2010-20I/SO
designator U?
High-Performance 16-bit Digital Signal Controller, 12 KB Flash, 512 Byte SRAM, 1 KB EEPROM, 28-Pin SOIC, Industrial Temperature; Manufacturer: Microchip; PartNumber: DSPIC30F2010-20I/SO; DatasheetVersion: revH, May-2008; PackageVersion: revBB, Aug-2009; PackageReference: SOIC-SO28; PackageDescription: 28-Lead Plastic Small Outline (SO) - Wide 7.50mm Body [SOIC]; Supplier 1: Digi-Key; Supplier Part Number 1: DSPIC30F201020IS-ND; Supplier 2: Newark; Supplier Part Number 2: 88H5547; Supplier 3: Mouser; Supplier Part Number 3: 579-DS30F2010-20I/SO; Mounting Technology: Surface Mount; Code_JEDEC: MS-013; ComponentLink1Description: Manufacturer URL; ComponentLink1URL: http://www.microchip.com/; ComponentLink2Description: Datasheet; ComponentLink2URL: http://ww1.microchip.com/downloads/en/DeviceDoc/70118H.pdf; ComponentLink3Description: Package Specification; ComponentLink3URL: http://www.microchip.com/stellent/groups/techpub_sg/documents/packagingspec/en012702.pdf
footprint SOIC-SO28_N (SOIC, 28-Leads, Body 17.9x7.5mm, Pitch 1.27mm, IPC Medium Density)
footprint SOIC-SO28_L (SOIC, 28-Leads, Body 17.9x7.5mm, Pitch 1.27mm, IPC High Density)
footprint SOIC-SO28_M (SOIC, 28-Leads, Body 17.9x7.5mm, Pitch 1.27mm, IPC Low Density)
pins: 1 ~{MCLR} (in), 2 EMUD3/AN0/VREF+/CN2/RB0 (io), 3 EMUC3/AN1/VREF-/CN3/RB1 (io), 4 AN2/~{SS1}/CN4/RB2 (io), 5 AN3/INDX/CN5/RB3 (io), 6 AN4/QEA/IC7/CN6/RB4 (io), 7 AN5/QEB/IC8/CN7/RB5 (io), 8 VSS (power), 9 OSC1/CLKI (in), 10 OSC2/CLKO/RC15 (io), 11 EMUD1/SOSCI/T2CK/U1ATX/CN1/RC13 (io), 12 EMUC1/SOSCO/T1CK/U1ARX/CN0/RC14 (io), 13 VDD (power), 14 EMUD2/OC2/IC2/INT2/RD1 (io), 15 EMUC2/OC1/IC1/INT1/RD0 (io), 16 ~{FLTA}/INT0/SCK1/OCFA/RE8 (io), 17 PGD/EMUD/U1TX/SDO1/SCL/RF3 (io), 18 PGC/EMUC/U1RX/SDI1/SDA/RF2 (io), 19 VSS (power), 20 VDD (power), 21 PWM3H/RE5 (io), 22 PWM3L/RE4 (io), 23 PWM2H/RE3 (io), 24 PWM2L/RE2 (io), 25 PWM1H/RE1 (io), 26 PWM1L/RE0 (io), 27 AVSS (power), 28 AVDD (power)

## DSPIC30F2010-20I/SP
designator U?
High-Performance 16-bit Digital Signal Controller, 12 KB Flash, 512 Byte SRAM, 1 KB EEPROM, 28-Pin SPDIP, Industrial Temperature; Manufacturer: Microchip; PartNumber: DSPIC30F2010-20I/SP; DatasheetVersion: revH, May-2008; PackageVersion: revBB, Aug-2009; PackageReference: SPDIP300-SP28; PackageDescription: 28-Lead Skinny Plastic Dual In-Line (SP) - 300 mil Body [SPDIP]; Supplier 1: Digi-Key; Supplier Part Number 1: DSPIC30F201020ISP-ND; Supplier 2: Farnell; Supplier Part Number 2: 1466066; Supplier 3: Newark; Supplier Part Number 3: 88H5548; Supplier 4: Mouser; Supplier Part Number 4: 579-DS30F2010-20I/SP; Mounting Technology: Through Hole; ComponentLink1Description: Manufacturer URL; ComponentLink1URL: http://www.microchip.com/; ComponentLink2Description: Datasheet; ComponentLink2URL: http://ww1.microchip.com/downloads/en/DeviceDoc/70118H.pdf; ComponentLink3Description: Package Specification; ComponentLink3URL: http://www.microchip.com/stellent/groups/techpub_sg/documents/packagingspec/en012702.pdf
footprint SPDIP300-SP28 (DIP, 28-Leads, Row Spacing 7.62mm, Pitch 2.54mm, Body 34.9x6.8mm)
pins: 1 ~{MCLR} (in), 2 EMUD3/AN0/VREF+/CN2/RB0 (io), 3 EMUC3/AN1/VREF-/CN3/RB1 (io), 4 AN2/~{SS1}/CN4/RB2 (io), 5 AN3/INDX/CN5/RB3 (io), 6 AN4/QEA/IC7/CN6/RB4 (io), 7 AN5/QEB/IC8/CN7/RB5 (io), 8 VSS (power), 9 OSC1/CLKI (in), 10 OSC2/CLKO/RC15 (io), 11 EMUD1/SOSCI/T2CK/U1ATX/CN1/RC13 (io), 12 EMUC1/SOSCO/T1CK/U1ARX/CN0/RC14 (io), 13 VDD (power), 14 EMUD2/OC2/IC2/INT2/RD1 (io), 15 EMUC2/OC1/IC1/INT1/RD0 (io), 16 ~{FLTA}/INT0/SCK1/OCFA/RE8 (io), 17 PGD/EMUD/U1TX/SDO1/SCL/RF3 (io), 18 PGC/EMUC/U1RX/SDI1/SDA/RF2 (io), 19 VSS (power), 20 VDD (power), 21 PWM3H/RE5 (io), 22 PWM3L/RE4 (io), 23 PWM2H/RE3 (io), 24 PWM2L/RE2 (io), 25 PWM1H/RE1 (io), 26 PWM1L/RE0 (io), 27 AVSS (power), 28 AVDD (power)

## DSPIC30F2010-30I/MM
designator U?
High-Performance 16-bit Digital Signal Controller, 12 KB Flash, 512 Byte SRAM, 1 KB EEPROM, 28-Pin QFN, Industrial Temperature; Manufacturer: Microchip; PartNumber: DSPIC30F2010-30I/MM; DatasheetVersion: revH, May-2008; PackageVersion: revBB, Aug-2009; PackageReference: QFNS-MM28; PackageDescription: 28-Lead Plastic Quad Flat, No Lead Package (MM) - 6x6x0.9 mm Body [QFN-S] with 0.40 mm Contact Length; Supplier 1: Digi-Key; Supplier Part Number 1: DSPIC30F2010-30I/MM-ND; Supplier 2: Farnell; Supplier Part Number 2: 1818554; Supplier 3: Newark; Supplier Part Number 3: 54M4477; Supplier 4: Mouser; Supplier Part Number 4: 579-DSPIC30F21030IMM; Mounting Technology: Surface Mount; ComponentLink1Description: Manufacturer URL; ComponentLink1URL: http://www.microchip.com/; ComponentLink2Description: Datasheet; ComponentLink2URL: http://ww1.microchip.com/downloads/en/DeviceDoc/70118H.pdf; ComponentLink3Description: Package Specification; ComponentLink3URL: http://www.microchip.com/stellent/groups/techpub_sg/documents/packagingspec/en012702.pdf
footprint QFNS-MM28_N (QFN, 28-Leads, Body 6x6mm, Pitch 0.65mm, Thermal Pad 4.7x4.7mm, IPC Medium Density)
footprint QFNS-MM28_L (QFN, 28-Leads, Body 6x6mm, Pitch 0.65mm, Thermal Pad 4.7x4.7mm, IPC High Density)
footprint QFNS-MM28_M (QFN, 28-Leads, Body 6x6mm, Pitch 0.65mm, Thermal Pad 4.7x4.7mm, IPC Low Density)
pins: 1 AN2/~{SS1}/CN4/RB2 (io), 2 AN3/INDX/CN5/RB3 (io), 3 AN4/QEA/IC7/CN6/RB4 (io), 4 AN5/QEB/IC8/CN7/RB5 (io), 5 VSS (power), 6 OSC1/CLKI (in), 7 OSC2/CLKO/RC15 (io), 8 EMUD1/SOSCI/T2CK/U1ATX/CN1/RC13 (io), 9 EMUC1/SOSCO/T1CK/U1ARX/CN0/RC14 (io), 10 VDD (power), 11 EMUD2/OC2/IC2/INT2/RD1 (io), 12 EMUC2/OC1/IC1/INT1/RD0 (io), 13 ~{FLTA}/INT0/SCK1/OCFA/RE8 (io), 14 PGD/EMUD/U1TX/SDO1/SCL/RF3 (io), 15 PGC/EMUC/U1RX/SDI1/SDA/RF2 (io), 16 VSS (power), 17 VDD (power), 18 PWM3H/RE5 (io), 19 PWM3L/RE4 (io), 20 PWM2H/RE3 (io), 21 PWM2L/RE2 (io), 22 PWM1H/RE1 (io), 23 PWM1L/RE0 (io), 24 AVSS (power), 25 AVDD (power), 26 ~{MCLR} (in), 27 EMUD3/AN0/VREF+/CN2/RB0 (io), 28 EMUC3/AN1/VREF-/CN3/RB1 (io), 29 ThermalPad

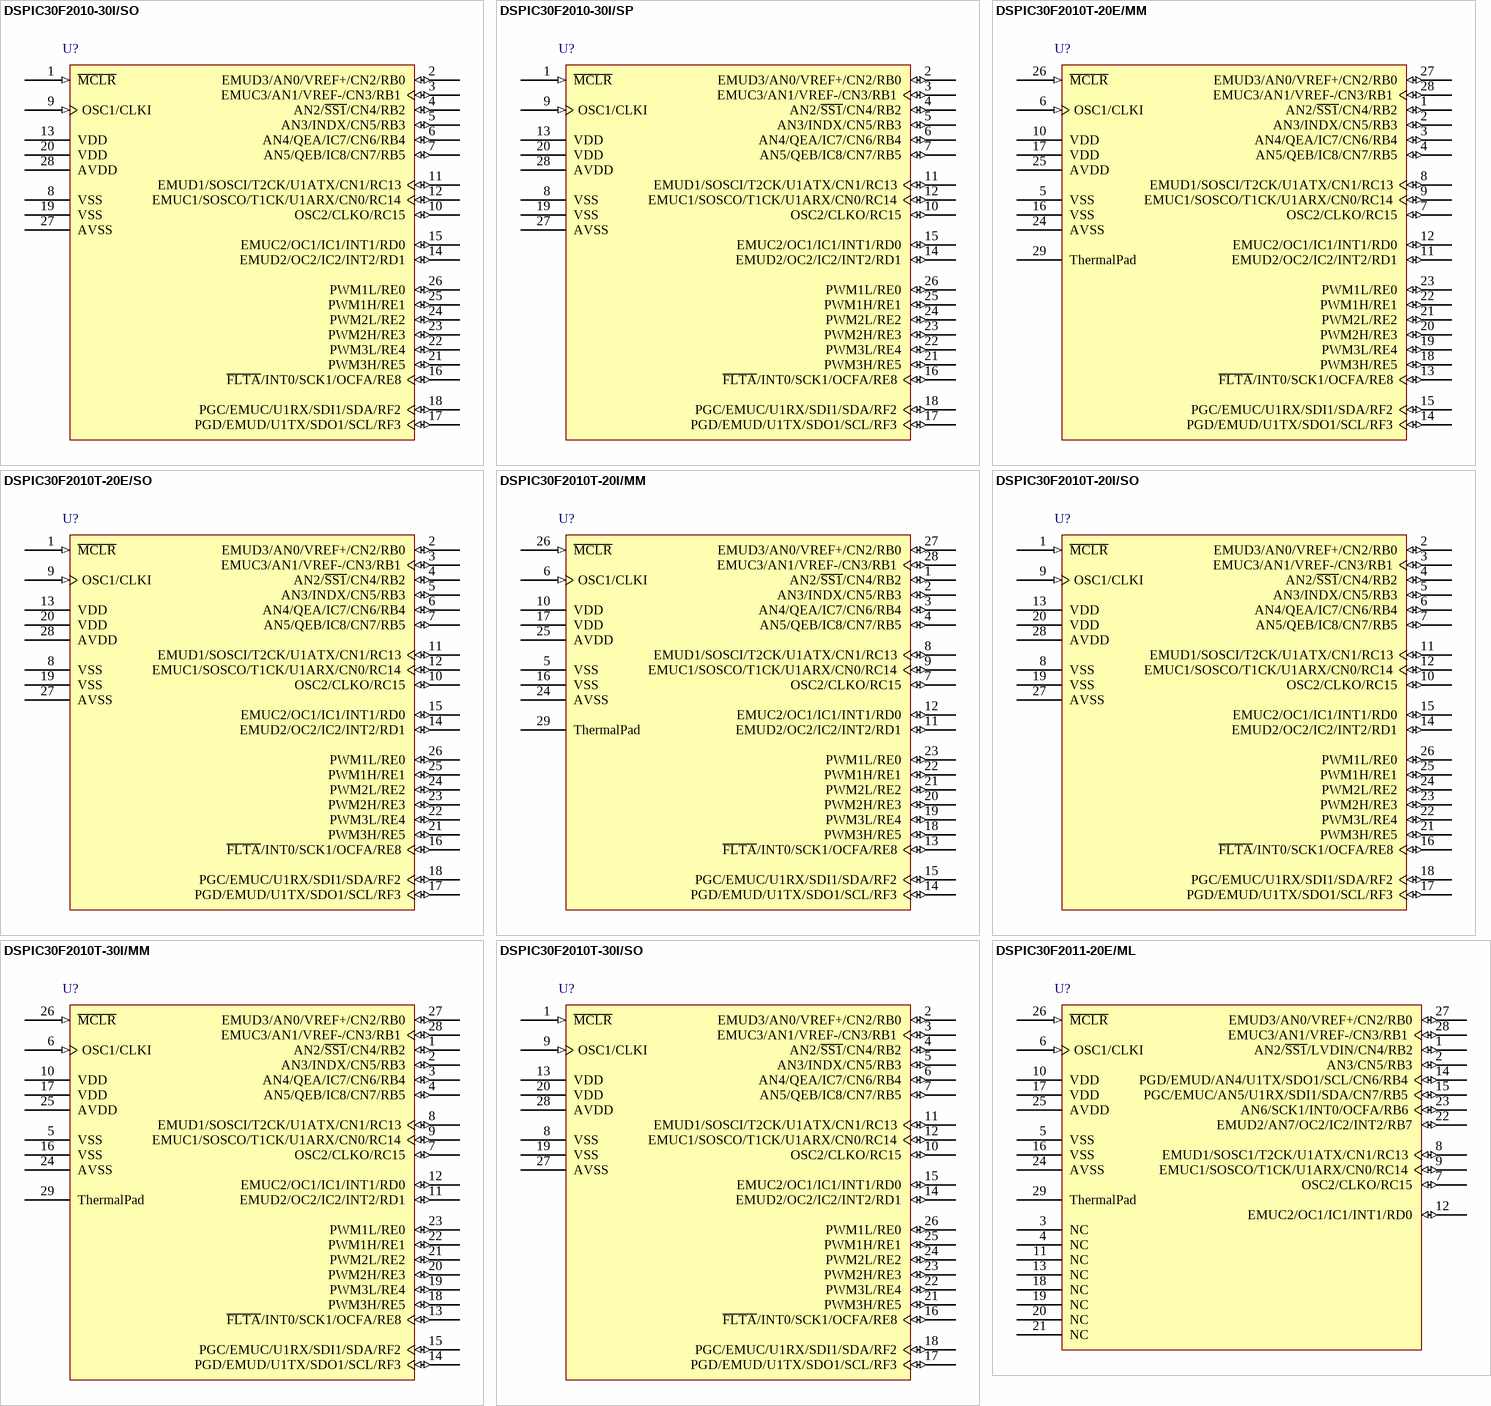
[diagram p2: symbols DSPIC30F2010-30I/SO to DSPIC30F2011-20E/ML]

## DSPIC30F2010-30I/SO
designator U?
High-Performance 16-bit Digital Signal Controller, 12 KB Flash, 512 Byte SRAM, 1 KB EEPROM, 28-Pin SOIC, Industrial Temperature; Manufacturer: Microchip; PartNumber: DSPIC30F2010-30I/SO; DatasheetVersion: revH, May-2008; PackageVersion: revBB, Aug-2009; PackageReference: SOIC-SO28; PackageDescription: 28-Lead Plastic Small Outline (SO) - Wide 7.50mm Body [SOIC]; Supplier 1: Digi-Key; Supplier Part Number 1: DSPIC30F2010-30I/SO-ND; Supplier 2: Newark; Supplier Part Number 2: 88H5549; Supplier 3: Mouser; Supplier Part Number 3: 579-DS30F2010-30I/SO; Mounting Technology: Surface Mount; Code_JEDEC: MS-013; ComponentLink1Description: Manufacturer URL; ComponentLink1URL: http://www.microchip.com/; ComponentLink2Description: Datasheet; ComponentLink2URL: http://ww1.microchip.com/downloads/en/DeviceDoc/70118H.pdf; ComponentLink3Description: Package Specification; ComponentLink3URL: http://www.microchip.com/stellent/groups/techpub_sg/documents/packagingspec/en012702.pdf
footprint SOIC-SO28_N (SOIC, 28-Leads, Body 17.9x7.5mm, Pitch 1.27mm, IPC Medium Density)
footprint SOIC-SO28_L (SOIC, 28-Leads, Body 17.9x7.5mm, Pitch 1.27mm, IPC High Density)
footprint SOIC-SO28_M (SOIC, 28-Leads, Body 17.9x7.5mm, Pitch 1.27mm, IPC Low Density)
pins: 1 ~{MCLR} (in), 2 EMUD3/AN0/VREF+/CN2/RB0 (io), 3 EMUC3/AN1/VREF-/CN3/RB1 (io), 4 AN2/~{SS1}/CN4/RB2 (io), 5 AN3/INDX/CN5/RB3 (io), 6 AN4/QEA/IC7/CN6/RB4 (io), 7 AN5/QEB/IC8/CN7/RB5 (io), 8 VSS (power), 9 OSC1/CLKI (in), 10 OSC2/CLKO/RC15 (io), 11 EMUD1/SOSCI/T2CK/U1ATX/CN1/RC13 (io), 12 EMUC1/SOSCO/T1CK/U1ARX/CN0/RC14 (io), 13 VDD (power), 14 EMUD2/OC2/IC2/INT2/RD1 (io), 15 EMUC2/OC1/IC1/INT1/RD0 (io), 16 ~{FLTA}/INT0/SCK1/OCFA/RE8 (io), 17 PGD/EMUD/U1TX/SDO1/SCL/RF3 (io), 18 PGC/EMUC/U1RX/SDI1/SDA/RF2 (io), 19 VSS (power), 20 VDD (power), 21 PWM3H/RE5 (io), 22 PWM3L/RE4 (io), 23 PWM2H/RE3 (io), 24 PWM2L/RE2 (io), 25 PWM1H/RE1 (io), 26 PWM1L/RE0 (io), 27 AVSS (power), 28 AVDD (power)

## DSPIC30F2010-30I/SP
designator U?
High-Performance 16-bit Digital Signal Controller, 12 KB Flash, 512 Byte SRAM, 1 KB EEPROM, 28-Pin SPDIP, Industrial Temperature; Manufacturer: Microchip; PartNumber: DSPIC30F2010-30I/SP; DatasheetVersion: revH, May-2008; PackageVersion: revBB, Aug-2009; PackageReference: SPDIP300-SP28; PackageDescription: 28-Lead Skinny Plastic Dual In-Line (SP) - 300 mil Body [SPDIP]; Supplier 1: Digi-Key; Supplier Part Number 1: DSPIC30F201030ISP-ND; Supplier 2: Newark; Supplier Part Number 2: 88H5550; Supplier 3: Mouser; Supplier Part Number 3: 579-DS30F2010-30I/SP; Mounting Technology: Through Hole; ComponentLink1Description: Manufacturer URL; ComponentLink1URL: http://www.microchip.com/; ComponentLink2Description: Datasheet; ComponentLink2URL: http://ww1.microchip.com/downloads/en/DeviceDoc/70118H.pdf; ComponentLink3Description: Package Specification; ComponentLink3URL: http://www.microchip.com/stellent/groups/techpub_sg/documents/packagingspec/en012702.pdf
footprint SPDIP300-SP28 (DIP, 28-Leads, Row Spacing 7.62mm, Pitch 2.54mm, Body 34.9x6.8mm)
pins: 1 ~{MCLR} (in), 2 EMUD3/AN0/VREF+/CN2/RB0 (io), 3 EMUC3/AN1/VREF-/CN3/RB1 (io), 4 AN2/~{SS1}/CN4/RB2 (io), 5 AN3/INDX/CN5/RB3 (io), 6 AN4/QEA/IC7/CN6/RB4 (io), 7 AN5/QEB/IC8/CN7/RB5 (io), 8 VSS (power), 9 OSC1/CLKI (in), 10 OSC2/CLKO/RC15 (io), 11 EMUD1/SOSCI/T2CK/U1ATX/CN1/RC13 (io), 12 EMUC1/SOSCO/T1CK/U1ARX/CN0/RC14 (io), 13 VDD (power), 14 EMUD2/OC2/IC2/INT2/RD1 (io), 15 EMUC2/OC1/IC1/INT1/RD0 (io), 16 ~{FLTA}/INT0/SCK1/OCFA/RE8 (io), 17 PGD/EMUD/U1TX/SDO1/SCL/RF3 (io), 18 PGC/EMUC/U1RX/SDI1/SDA/RF2 (io), 19 VSS (power), 20 VDD (power), 21 PWM3H/RE5 (io), 22 PWM3L/RE4 (io), 23 PWM2H/RE3 (io), 24 PWM2L/RE2 (io), 25 PWM1H/RE1 (io), 26 PWM1L/RE0 (io), 27 AVSS (power), 28 AVDD (power)

## DSPIC30F2010T-20E/MM
designator U?
High-Performance 16-bit Digital Signal Controller, 12 KB Flash, 512 Byte SRAM, 1 KB EEPROM, 28-Pin QFN, Extended High Temperature, Tape and Reel; Manufacturer: Microchip; PartNumber: DSPIC30F2010T-20E/MM; DatasheetVersion: revH, May-2008; PackageVersion: revBB, Aug-2009; PackageReference: QFNS-MM28; PackageDescription: 28-Lead Plastic Quad Flat, No Lead Package (MM) - 6x6x0.9 mm Body [QFN-S] with 0.40 mm Contact Length; Supplier 1: Digi-Key; Supplier Part Number 1: DSPIC30F2010T-20E/MM-ND; Supplier 2: Mouser; Supplier Part Number 2: 579-DSPIC32010T20EMM; Mounting Technology: Surface Mount; ComponentLink1Description: Manufacturer URL; ComponentLink1URL: http://www.microchip.com/; ComponentLink2Description: Datasheet; ComponentLink2URL: http://ww1.microchip.com/downloads/en/DeviceDoc/70118H.pdf; ComponentLink3Description: Package Specification; ComponentLink3URL: http://www.microchip.com/stellent/groups/techpub_sg/documents/packagingspec/en012702.pdf
footprint QFNS-MM28_N (QFN, 28-Leads, Body 6x6mm, Pitch 0.65mm, Thermal Pad 4.7x4.7mm, IPC Medium Density)
footprint QFNS-MM28_L (QFN, 28-Leads, Body 6x6mm, Pitch 0.65mm, Thermal Pad 4.7x4.7mm, IPC High Density)
footprint QFNS-MM28_M (QFN, 28-Leads, Body 6x6mm, Pitch 0.65mm, Thermal Pad 4.7x4.7mm, IPC Low Density)
pins: 1 AN2/~{SS1}/CN4/RB2 (io), 2 AN3/INDX/CN5/RB3 (io), 3 AN4/QEA/IC7/CN6/RB4 (io), 4 AN5/QEB/IC8/CN7/RB5 (io), 5 VSS (power), 6 OSC1/CLKI (in), 7 OSC2/CLKO/RC15 (io), 8 EMUD1/SOSCI/T2CK/U1ATX/CN1/RC13 (io), 9 EMUC1/SOSCO/T1CK/U1ARX/CN0/RC14 (io), 10 VDD (power), 11 EMUD2/OC2/IC2/INT2/RD1 (io), 12 EMUC2/OC1/IC1/INT1/RD0 (io), 13 ~{FLTA}/INT0/SCK1/OCFA/RE8 (io), 14 PGD/EMUD/U1TX/SDO1/SCL/RF3 (io), 15 PGC/EMUC/U1RX/SDI1/SDA/RF2 (io), 16 VSS (power), 17 VDD (power), 18 PWM3H/RE5 (io), 19 PWM3L/RE4 (io), 20 PWM2H/RE3 (io), 21 PWM2L/RE2 (io), 22 PWM1H/RE1 (io), 23 PWM1L/RE0 (io), 24 AVSS (power), 25 AVDD (power), 26 ~{MCLR} (in), 27 EMUD3/AN0/VREF+/CN2/RB0 (io), 28 EMUC3/AN1/VREF-/CN3/RB1 (io), 29 ThermalPad

## DSPIC30F2010T-20E/SO
designator U?
High-Performance 16-bit Digital Signal Controller, 12 KB Flash, 512 Byte SRAM, 1 KB EEPROM, 28-Pin SOIC, Extended High Temperature, Tape and Reel; Manufacturer: Microchip; PartNumber: DSPIC30F2010T-20E/SO; DatasheetVersion: revH, May-2008; PackageVersion: revBB, Aug-2009; PackageReference: SOIC-SO28; PackageDescription: 28-Lead Plastic Small Outline (SO) - Wide 7.50mm Body [SOIC]; Supplier 1: Digi-Key; Supplier Part Number 1: DSPIC30F2010T-20E/SO-ND; Supplier 2: Mouser; Supplier Part Number 2: 579-DSPIC32010T20ESO; Mounting Technology: Surface Mount; Code_JEDEC: MS-013; ComponentLink1Description: Manufacturer URL; ComponentLink1URL: http://www.microchip.com/; ComponentLink2Description: Datasheet; ComponentLink2URL: http://ww1.microchip.com/downloads/en/DeviceDoc/70118H.pdf; ComponentLink3Description: Package Specification; ComponentLink3URL: http://www.microchip.com/stellent/groups/techpub_sg/documents/packagingspec/en012702.pdf
footprint SOIC-SO28_N (SOIC, 28-Leads, Body 17.9x7.5mm, Pitch 1.27mm, IPC Medium Density)
footprint SOIC-SO28_L (SOIC, 28-Leads, Body 17.9x7.5mm, Pitch 1.27mm, IPC High Density)
footprint SOIC-SO28_M (SOIC, 28-Leads, Body 17.9x7.5mm, Pitch 1.27mm, IPC Low Density)
pins: 1 ~{MCLR} (in), 2 EMUD3/AN0/VREF+/CN2/RB0 (io), 3 EMUC3/AN1/VREF-/CN3/RB1 (io), 4 AN2/~{SS1}/CN4/RB2 (io), 5 AN3/INDX/CN5/RB3 (io), 6 AN4/QEA/IC7/CN6/RB4 (io), 7 AN5/QEB/IC8/CN7/RB5 (io), 8 VSS (power), 9 OSC1/CLKI (in), 10 OSC2/CLKO/RC15 (io), 11 EMUD1/SOSCI/T2CK/U1ATX/CN1/RC13 (io), 12 EMUC1/SOSCO/T1CK/U1ARX/CN0/RC14 (io), 13 VDD (power), 14 EMUD2/OC2/IC2/INT2/RD1 (io), 15 EMUC2/OC1/IC1/INT1/RD0 (io), 16 ~{FLTA}/INT0/SCK1/OCFA/RE8 (io), 17 PGD/EMUD/U1TX/SDO1/SCL/RF3 (io), 18 PGC/EMUC/U1RX/SDI1/SDA/RF2 (io), 19 VSS (power), 20 VDD (power), 21 PWM3H/RE5 (io), 22 PWM3L/RE4 (io), 23 PWM2H/RE3 (io), 24 PWM2L/RE2 (io), 25 PWM1H/RE1 (io), 26 PWM1L/RE0 (io), 27 AVSS (power), 28 AVDD (power)

## DSPIC30F2010T-20I/MM
designator U?
High-Performance 16-bit Digital Signal Controller, 12 KB Flash, 512 Byte SRAM, 1 KB EEPROM, 28-Pin QFN, Industrial Temperature, Tape and Reel; Manufacturer: Microchip; PartNumber: DSPIC30F2010T-20I/MM; DatasheetVersion: revH, May-2008; PackageVersion: revBB, Aug-2009; PackageReference: QFNS-MM28; PackageDescription: 28-Lead Plastic Quad Flat, No Lead Package (MM) - 6x6x0.9 mm Body [QFN-S] with 0.40 mm Contact Length; Supplier 1: Digi-Key; Supplier Part Number 1: DSPIC30F2010T-20I/MM-ND; Supplier 2: Mouser; Supplier Part Number 2: 579-DSPIC32010T20IMM; Mounting Technology: Surface Mount; ComponentLink1Description: Manufacturer URL; ComponentLink1URL: http://www.microchip.com/; ComponentLink2Description: Datasheet; ComponentLink2URL: http://ww1.microchip.com/downloads/en/DeviceDoc/70118H.pdf; ComponentLink3Description: Package Specification; ComponentLink3URL: http://www.microchip.com/stellent/groups/techpub_sg/documents/packagingspec/en012702.pdf
footprint QFNS-MM28_N (QFN, 28-Leads, Body 6x6mm, Pitch 0.65mm, Thermal Pad 4.7x4.7mm, IPC Medium Density)
footprint QFNS-MM28_L (QFN, 28-Leads, Body 6x6mm, Pitch 0.65mm, Thermal Pad 4.7x4.7mm, IPC High Density)
footprint QFNS-MM28_M (QFN, 28-Leads, Body 6x6mm, Pitch 0.65mm, Thermal Pad 4.7x4.7mm, IPC Low Density)
pins: 1 AN2/~{SS1}/CN4/RB2 (io), 2 AN3/INDX/CN5/RB3 (io), 3 AN4/QEA/IC7/CN6/RB4 (io), 4 AN5/QEB/IC8/CN7/RB5 (io), 5 VSS (power), 6 OSC1/CLKI (in), 7 OSC2/CLKO/RC15 (io), 8 EMUD1/SOSCI/T2CK/U1ATX/CN1/RC13 (io), 9 EMUC1/SOSCO/T1CK/U1ARX/CN0/RC14 (io), 10 VDD (power), 11 EMUD2/OC2/IC2/INT2/RD1 (io), 12 EMUC2/OC1/IC1/INT1/RD0 (io), 13 ~{FLTA}/INT0/SCK1/OCFA/RE8 (io), 14 PGD/EMUD/U1TX/SDO1/SCL/RF3 (io), 15 PGC/EMUC/U1RX/SDI1/SDA/RF2 (io), 16 VSS (power), 17 VDD (power), 18 PWM3H/RE5 (io), 19 PWM3L/RE4 (io), 20 PWM2H/RE3 (io), 21 PWM2L/RE2 (io), 22 PWM1H/RE1 (io), 23 PWM1L/RE0 (io), 24 AVSS (power), 25 AVDD (power), 26 ~{MCLR} (in), 27 EMUD3/AN0/VREF+/CN2/RB0 (io), 28 EMUC3/AN1/VREF-/CN3/RB1 (io), 29 ThermalPad

## DSPIC30F2010T-20I/SO
designator U?
High-Performance 16-bit Digital Signal Controller, 12 KB Flash, 512 Byte SRAM, 1 KB EEPROM, 28-Pin SOIC, Industrial Temperature, Tape and Reel; Manufacturer: Microchip; PartNumber: DSPIC30F2010T-20I/SO; DatasheetVersion: revH, May-2008; PackageVersion: revBB, Aug-2009; PackageReference: SOIC-SO28; PackageDescription: 28-Lead Plastic Small Outline (SO) - Wide 7.50mm Body [SOIC]; Supplier 1: Digi-Key; Supplier Part Number 1: DSPIC30F2010T20IS-ND; Supplier 2: Mouser; Supplier Part Number 2: 579-DS30F2010T20I/SO; Mounting Technology: Surface Mount; Code_JEDEC: MS-013; ComponentLink1Description: Manufacturer URL; ComponentLink1URL: http://www.microchip.com/; ComponentLink2Description: Datasheet; ComponentLink2URL: http://ww1.microchip.com/downloads/en/DeviceDoc/70118H.pdf; ComponentLink3Description: Package Specification; ComponentLink3URL: http://www.microchip.com/stellent/groups/techpub_sg/documents/packagingspec/en012702.pdf
footprint SOIC-SO28_N (SOIC, 28-Leads, Body 17.9x7.5mm, Pitch 1.27mm, IPC Medium Density)
footprint SOIC-SO28_L (SOIC, 28-Leads, Body 17.9x7.5mm, Pitch 1.27mm, IPC High Density)
footprint SOIC-SO28_M (SOIC, 28-Leads, Body 17.9x7.5mm, Pitch 1.27mm, IPC Low Density)
pins: 1 ~{MCLR} (in), 2 EMUD3/AN0/VREF+/CN2/RB0 (io), 3 EMUC3/AN1/VREF-/CN3/RB1 (io), 4 AN2/~{SS1}/CN4/RB2 (io), 5 AN3/INDX/CN5/RB3 (io), 6 AN4/QEA/IC7/CN6/RB4 (io), 7 AN5/QEB/IC8/CN7/RB5 (io), 8 VSS (power), 9 OSC1/CLKI (in), 10 OSC2/CLKO/RC15 (io), 11 EMUD1/SOSCI/T2CK/U1ATX/CN1/RC13 (io), 12 EMUC1/SOSCO/T1CK/U1ARX/CN0/RC14 (io), 13 VDD (power), 14 EMUD2/OC2/IC2/INT2/RD1 (io), 15 EMUC2/OC1/IC1/INT1/RD0 (io), 16 ~{FLTA}/INT0/SCK1/OCFA/RE8 (io), 17 PGD/EMUD/U1TX/SDO1/SCL/RF3 (io), 18 PGC/EMUC/U1RX/SDI1/SDA/RF2 (io), 19 VSS (power), 20 VDD (power), 21 PWM3H/RE5 (io), 22 PWM3L/RE4 (io), 23 PWM2H/RE3 (io), 24 PWM2L/RE2 (io), 25 PWM1H/RE1 (io), 26 PWM1L/RE0 (io), 27 AVSS (power), 28 AVDD (power)

## DSPIC30F2010T-30I/MM
designator U?
High-Performance 16-bit Digital Signal Controller, 12 KB Flash, 512 Byte SRAM, 1 KB EEPROM, 28-Pin QFN, Industrial Temperature, Tape and Reel; Manufacturer: Microchip; PartNumber: DSPIC30F2010T-30I/MM; DatasheetVersion: revH, May-2008; PackageVersion: revBB, Aug-2009; PackageReference: QFNS-MM28; PackageDescription: 28-Lead Plastic Quad Flat, No Lead Package (MM) - 6x6x0.9 mm Body [QFN-S] with 0.40 mm Contact Length; Supplier 1: Digi-Key; Supplier Part Number 1: DSPIC30F2010T-30I/MM-ND; Supplier 2: Mouser; Supplier Part Number 2: 579-DSPIC32010T30IMM; Mounting Technology: Surface Mount; ComponentLink1Description: Manufacturer URL; ComponentLink1URL: http://www.microchip.com/; ComponentLink2Description: Datasheet; ComponentLink2URL: http://ww1.microchip.com/downloads/en/DeviceDoc/70118H.pdf; ComponentLink3Description: Package Specification; ComponentLink3URL: http://www.microchip.com/stellent/groups/techpub_sg/documents/packagingspec/en012702.pdf
footprint QFNS-MM28_N (QFN, 28-Leads, Body 6x6mm, Pitch 0.65mm, Thermal Pad 4.7x4.7mm, IPC Medium Density)
footprint QFNS-MM28_L (QFN, 28-Leads, Body 6x6mm, Pitch 0.65mm, Thermal Pad 4.7x4.7mm, IPC High Density)
footprint QFNS-MM28_M (QFN, 28-Leads, Body 6x6mm, Pitch 0.65mm, Thermal Pad 4.7x4.7mm, IPC Low Density)
pins: 1 AN2/~{SS1}/CN4/RB2 (io), 2 AN3/INDX/CN5/RB3 (io), 3 AN4/QEA/IC7/CN6/RB4 (io), 4 AN5/QEB/IC8/CN7/RB5 (io), 5 VSS (power), 6 OSC1/CLKI (in), 7 OSC2/CLKO/RC15 (io), 8 EMUD1/SOSCI/T2CK/U1ATX/CN1/RC13 (io), 9 EMUC1/SOSCO/T1CK/U1ARX/CN0/RC14 (io), 10 VDD (power), 11 EMUD2/OC2/IC2/INT2/RD1 (io), 12 EMUC2/OC1/IC1/INT1/RD0 (io), 13 ~{FLTA}/INT0/SCK1/OCFA/RE8 (io), 14 PGD/EMUD/U1TX/SDO1/SCL/RF3 (io), 15 PGC/EMUC/U1RX/SDI1/SDA/RF2 (io), 16 VSS (power), 17 VDD (power), 18 PWM3H/RE5 (io), 19 PWM3L/RE4 (io), 20 PWM2H/RE3 (io), 21 PWM2L/RE2 (io), 22 PWM1H/RE1 (io), 23 PWM1L/RE0 (io), 24 AVSS (power), 25 AVDD (power), 26 ~{MCLR} (in), 27 EMUD3/AN0/VREF+/CN2/RB0 (io), 28 EMUC3/AN1/VREF-/CN3/RB1 (io), 29 ThermalPad

## DSPIC30F2010T-30I/SO
designator U?
High-Performance 16-bit Digital Signal Controller, 12 KB Flash, 512 Byte SRAM, 1 KB EEPROM, 28-Pin SOIC, Industrial Temperature, Tape and Reel; Manufacturer: Microchip; PartNumber: DSPIC30F2010T-30I/SO; DatasheetVersion: revH, May-2008; PackageVersion: revBB, Aug-2009; PackageReference: SOIC-SO28; PackageDescription: 28-Lead Plastic Small Outline (SO) - Wide 7.50mm Body [SOIC]; Supplier 1: Digi-Key; Supplier Part Number 1: DSPIC30F2010T-30I/SO-ND; Supplier 2: Mouser; Supplier Part Number 2: 579-DS30F2010T30I/SO; Mounting Technology: Surface Mount; Code_JEDEC: MS-013; ComponentLink1Description: Manufacturer URL; ComponentLink1URL: http://www.microchip.com/; ComponentLink2Description: Datasheet; ComponentLink2URL: http://ww1.microchip.com/downloads/en/DeviceDoc/70118H.pdf; ComponentLink3Description: Package Specification; ComponentLink3URL: http://www.microchip.com/stellent/groups/techpub_sg/documents/packagingspec/en012702.pdf
footprint SOIC-SO28_N (SOIC, 28-Leads, Body 17.9x7.5mm, Pitch 1.27mm, IPC Medium Density)
footprint SOIC-SO28_L (SOIC, 28-Leads, Body 17.9x7.5mm, Pitch 1.27mm, IPC High Density)
footprint SOIC-SO28_M (SOIC, 28-Leads, Body 17.9x7.5mm, Pitch 1.27mm, IPC Low Density)
pins: 1 ~{MCLR} (in), 2 EMUD3/AN0/VREF+/CN2/RB0 (io), 3 EMUC3/AN1/VREF-/CN3/RB1 (io), 4 AN2/~{SS1}/CN4/RB2 (io), 5 AN3/INDX/CN5/RB3 (io), 6 AN4/QEA/IC7/CN6/RB4 (io), 7 AN5/QEB/IC8/CN7/RB5 (io), 8 VSS (power), 9 OSC1/CLKI (in), 10 OSC2/CLKO/RC15 (io), 11 EMUD1/SOSCI/T2CK/U1ATX/CN1/RC13 (io), 12 EMUC1/SOSCO/T1CK/U1ARX/CN0/RC14 (io), 13 VDD (power), 14 EMUD2/OC2/IC2/INT2/RD1 (io), 15 EMUC2/OC1/IC1/INT1/RD0 (io), 16 ~{FLTA}/INT0/SCK1/OCFA/RE8 (io), 17 PGD/EMUD/U1TX/SDO1/SCL/RF3 (io), 18 PGC/EMUC/U1RX/SDI1/SDA/RF2 (io), 19 VSS (power), 20 VDD (power), 21 PWM3H/RE5 (io), 22 PWM3L/RE4 (io), 23 PWM2H/RE3 (io), 24 PWM2L/RE2 (io), 25 PWM1H/RE1 (io), 26 PWM1L/RE0 (io), 27 AVSS (power), 28 AVDD (power)